# Altium schematic symbol library HDR_1X11_A.SchLib: 1 symbol
Pins are listed as number, name and electrical type; pins without a type are passive.

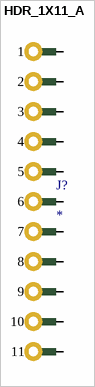
[diagram p0: symbol HDR_1X11_A]

## HDR_1X11_A
designator J?
pins: 1, 2, 3, 4, 5, 6, 7, 8, 9, 10, 11